# Altium schematic symbol library Giga.SchLib: 1 symbol
Pins are listed as number, name and electrical type; pins without a type are passive.

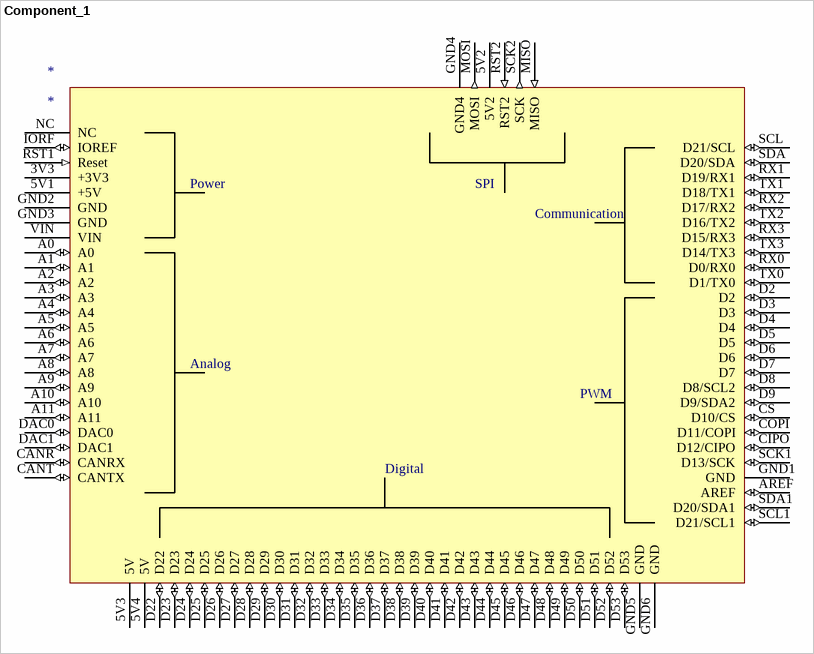
[diagram p0: symbol Component_1]

## Component_1
designator *
footprint Arduino_Giga_R1_WiFi_Shield
pins: 3V3 +3V3 (power), 5V1 +5V (power), 5V2 (power), 5V3 5V (power), 5V4 5V (power), A0 (io), A1 (io), A2 (io), A3 (io), A4 (io), A5 (io), A6 (io), A7 (io), A8 (io), A9 (io), A10 (io), A11 (io), AREF (io), CANR CANRX (io), CANT CANTX (io), CIPO D12/CIPO (io), COPI D11/COPI (io), CS D10/CS (io), D2 (io), D3 (io), D4 (io), D5 (io), D6 (io), D7 (io), D8 D8/SCL2 (io), D9 D9/SDA2 (io), D22 (io), D23 (io), D24 (io), D25 (io), D26 (io), D27 (io), D28 (io), D29 (io), D30 (io), D31 (io), D32 (io), D33 (io), D34 (io), D35 (io), D36 (io), D37 (io), D38 (io), D39 (io), D40 (io), D41 (io), D42 (io), D43 (io), D44 (io), D45 (io), D46 (io), D47 (io), D48 (io), D49 (io), D50 (io), D51 (io), D52 (io), D53 (io), DAC0 (io), DAC1 (io), GND1 GND (power), GND2 GND (power), GND3 GND (power), GND4 (power), GND5 GND (power), GND6 GND (power), IORF IOREF (io), MISO (in), MOSI (out), NC, RST1 Reset (in), RST2 (in), RX0 D0/RX0 (io), RX1 D19/RX1 (io), RX2 D17/RX2 (io), RX3 D15/RX3 (io), SCK1 D13/SCK (io), SCK2 SCK (out), SCL D21/SCL (io), SCL1 D21/SCL1 (io), SDA D20/SDA (io), SDA1 D20/SDA1 (io), TX0 D1/TX0 (io), TX1 D18/TX1 (io), TX2 D16/TX2 (io), TX3 D14/TX3 (io), VIN (power)
text: Power; SPI; Communication; Analog; PWM; Digital